# EAGLE library part PCF8575C (library Custom)
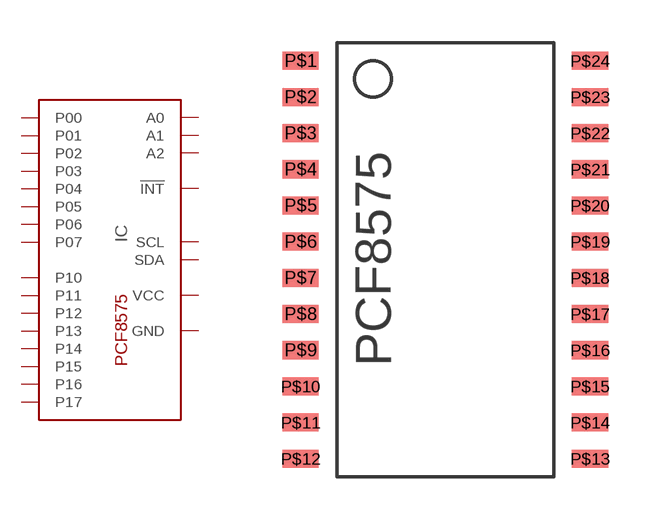
[diagram p63: symbol with the pads of SOP24; footprint SOP24]

Designator prefix IC

## PCF8575C  [SOP24]
P$1  !INT  oc
P$2  A1  in
P$3  A2  in
P$4  P00
P$5  P01
P$6  P02
P$7  P03
P$8  P04
P$9  P05
P$10  P06
P$11  P07
P$12  GND  pwr
P$13  P10
P$14  P11
P$15  P12
P$16  P13
P$17  P14
P$18  P15
P$19  P16
P$20  P17
P$21  A0  in
P$22  SCL  in
P$23  SDA
P$24  VCC  pwr

## Footprint SOP24 (pad centres in mm)
smd 1.27 x 0.635: P$1 -5.08,6.985; P$2 -5.08,5.715; P$3 -5.08,4.445; P$4 -5.08,3.175; P$5 -5.08,1.905; P$6 -5.08,0.635; P$7 -5.08,-0.635; P$8 -5.08,-1.905; P$9 -5.08,-3.175; P$10 -5.08,-4.445; P$11 -5.08,-5.715; P$12 -5.08,-6.985; P$13 5.08,-6.985; P$14 5.08,-5.715; P$15 5.08,-4.445; P$16 5.08,-3.175; P$17 5.08,-1.905; P$18 5.08,-0.635; P$19 5.08,0.635; P$20 5.08,1.905; P$21 5.08,3.175; P$22 5.08,4.445; P$23 5.08,5.715; P$24 5.08,6.985